# Altium footprint library 贴片IC.PcbLib: 51 footprints (part 1 of 4)
Each footprint in its own frame and in the unit in brackets; x right, y up, seen from the top. Pads: shape width x height; smd on the part's side, far side on the other; paste and mask are expansions set on the pad; w line width, h text height; cw(c..) or ccw(c..) is an arc to the next point about the centre after c.
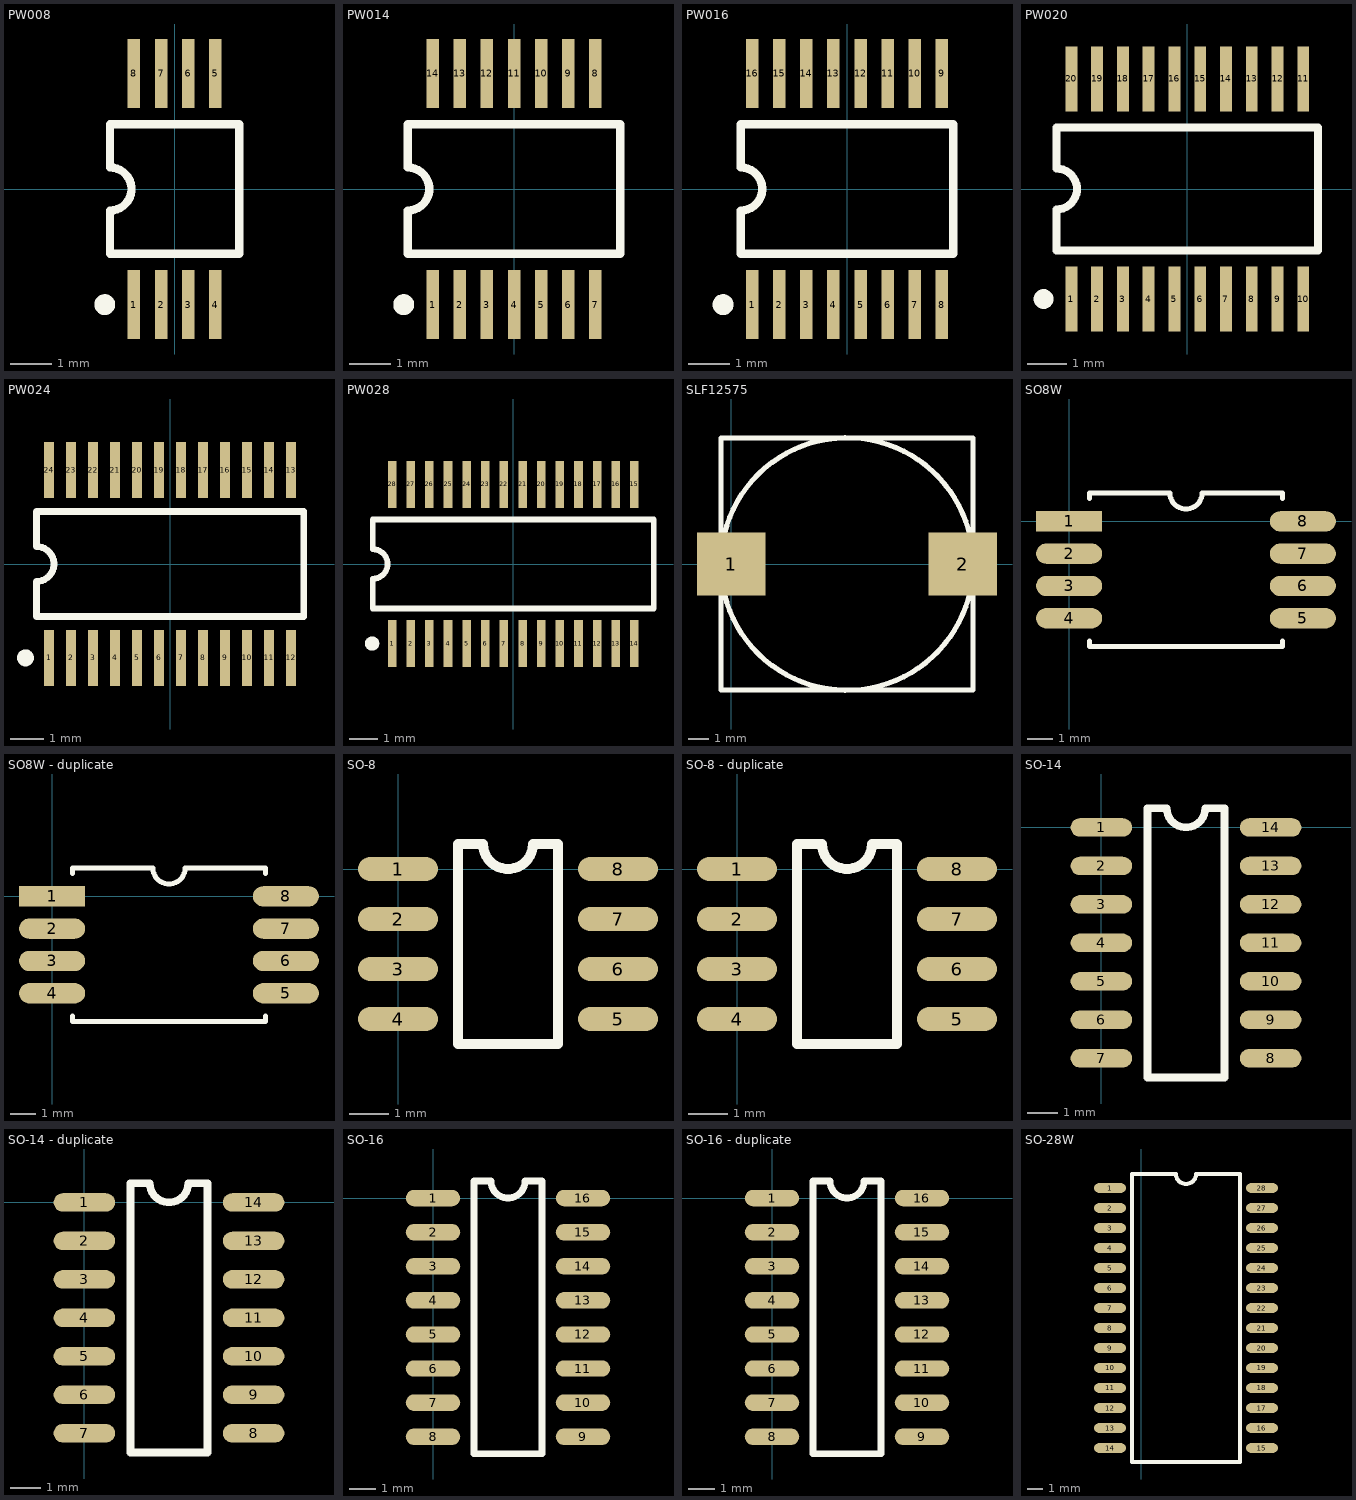
[diagram p0: the footprints below, top view; thin cyan lines are the x and y axes]

## PW008 [mm] "Shrink Small Outline; 8 Leads; Body Width 4.4 mm; Pitch 0.65 mm"
height 1.2
pads (8):
  rect 0.3x1.65 smd: 1(-0.975,-2.775) 2(-0.325,-2.775) 3(0.325,-2.775) 4(0.975,-2.775) 5(0.975,2.775) 6(0.325,2.775) 7(-0.325,2.775) 8(-0.975,2.775)
Top Overlay:
  circle w0.25: c-1.675,-2.775 r0.125
  lines w0.2: -1.55,-1.55 -1.55,-0.517 ccw(c-1.55,0) -1.55,0.517 -1.55,1.55 1.55,1.55 1.55,-1.55 -1.55,-1.55

## PW014 [mm] "Shrink Small Outline; 14 Leads; Body Width 4.4 mm; Pitch 0.65 mm"
height 1.2
pads (14):
  rect 0.3x1.65 smd: 1(-1.95,-2.775) 2(-1.3,-2.775) 3(-0.65,-2.775) 4(0,-2.775) 5(0.65,-2.775) 6(1.3,-2.775) 7(1.95,-2.775) 8(1.95,2.775) 9(1.3,2.775) 10(0.65,2.775) 11(0,2.775) 12(-0.65,2.775) 13(-1.3,2.775) 14(-1.95,2.775)
Top Overlay:
  circle w0.25: c-2.65,-2.775 r0.125
  lines w0.2: -2.55,-1.55 2.55,-1.55 2.55,1.55 -2.55,1.55 -2.55,0.517 cw(c-2.55,0) -2.55,-0.517 -2.55,-1.55

## PW016 [mm] "Shrink Small Outline; 16 Leads; Body Width 4.4 mm; Pitch 0.65 mm"
height 1.2
pads (16):
  rect 0.3x1.65 smd: 1(-2.275,-2.775) 2(-1.625,-2.775) 3(-0.975,-2.775) 4(-0.325,-2.775) 5(0.325,-2.775) 6(0.975,-2.775) 7(1.625,-2.775) 8(2.275,-2.775) 9(2.275,2.775) 10(1.625,2.775) 11(0.975,2.775) 12(0.325,2.775) 13(-0.325,2.775) 14(-0.975,2.775) 15(-1.625,2.775) 16(-2.275,2.775)
Top Overlay:
  circle w0.25: c-2.975,-2.775 r0.125
  lines w0.2: -2.55,-1.55 2.55,-1.55 2.55,1.55 -2.55,1.55 -2.55,0.517 cw(c-2.55,0) -2.55,-0.517 -2.55,-1.55

## PW020 [mm] "Shrink Small Outline; 20 Leads; Body Width 4.4 mm; Pitch 0.65 mm"
height 1.2
pads (20):
  rect 0.3x1.65 smd: 1(-2.925,-2.775) 2(-2.275,-2.775) 3(-1.625,-2.775) 4(-0.975,-2.775) 5(-0.325,-2.775) 6(0.325,-2.775) 7(0.975,-2.775) 8(1.625,-2.775) 9(2.275,-2.775) 10(2.925,-2.775) 11(2.925,2.775) 12(2.275,2.775) 13(1.625,2.775) 14(0.975,2.775) 15(0.325,2.775) 16(-0.325,2.775) 17(-0.975,2.775) 18(-1.625,2.775) 19(-2.275,2.775) 20(-2.925,2.775)
Top Overlay:
  circle w0.25: c-3.625,-2.775 r0.125
  lines w0.2: -3.3,-1.55 -3.3,-0.517 ccw(c-3.3,0) -3.3,0.517 -3.3,1.55 3.3,1.55 3.3,-1.55 -3.3,-1.55

## PW024 [mm] "Shrink Small Outline; 24 Leads; Body Width 4.4 mm; Pitch 0.65 mm"
height 1.2
pads (24):
  rect 0.3x1.65 smd: 1(-3.575,-2.775) 2(-2.925,-2.775) 3(-2.275,-2.775) 4(-1.625,-2.775) 5(-0.975,-2.775) 6(-0.325,-2.775) 7(0.325,-2.775) 8(0.975,-2.775) 9(1.625,-2.775) 10(2.275,-2.775) 11(2.925,-2.775) 12(3.575,-2.775) 13(3.575,2.775) 14(2.925,2.775) 15(2.275,2.775) 16(1.625,2.775) 17(0.975,2.775) 18(0.325,2.775) 19(-0.325,2.775) 20(-0.975,2.775) 21(-1.625,2.775) 22(-2.275,2.775) 23(-2.925,2.775) 24(-3.575,2.775)
Top Overlay:
  circle w0.25: c-4.275,-2.775 r0.125
  lines w0.2: -3.95,-1.55 -3.95,-0.517 ccw(c-3.95,0) -3.95,0.517 -3.95,1.55 3.95,1.55 3.95,-1.55 -3.95,-1.55

## PW028 [mm] "Shrink Small Outline; 28 Leads; Body Width 4.4 mm; Pitch 0.65 mm"
height 1.2
pads (28):
  rect 0.3x1.65 smd: 1(-4.225,-2.775) 2(-3.575,-2.775) 3(-2.925,-2.775) 4(-2.275,-2.775) 5(-1.625,-2.775) 6(-0.975,-2.775) 7(-0.325,-2.775) 8(0.325,-2.775) 9(0.975,-2.775) 10(1.625,-2.775) 11(2.275,-2.775) 12(2.925,-2.775) 13(3.575,-2.775) 14(4.225,-2.775) 15(4.225,2.775) 16(3.575,2.775) 17(2.925,2.775) 18(2.275,2.775) 19(1.625,2.775) 20(0.975,2.775) 21(0.325,2.775) 22(-0.325,2.775) 23(-0.975,2.775) 24(-1.625,2.775) 25(-2.275,2.775) 26(-2.925,2.775) 27(-3.575,2.775) 28(-4.225,2.775)
Top Overlay:
  circle w0.25: c-4.925,-2.775 r0.125
  lines w0.2: -4.9,-1.55 4.9,-1.55 4.9,1.55 -4.9,1.55 -4.9,0.517 cw(c-4.9,0) -4.9,-0.517 -4.9,-1.55

## SLF12575 [mm]
pads (2):
  rect 3.4x3.15 smd: 1(0,0) 2(11.5,0)
Top Overlay:
  circle w0.254: c5.75,0 r6.27
  lines w0.254: -0.5,-6.25 12,-6.25 12,6.25 -0.5,6.25 -0.5,-6.25

## SO8W [mm]
pads (8):
  rect 2.6x0.8 smd: 1(0,0)
  oval 2.6x0.8 smd: 2(0,-1.27) 3(0,-2.54) 4(0,-3.81) 5(9.2,-3.81) 6(9.2,-2.54) 7(9.2,-1.27) 8(9.2,0)
Top Overlay:
  lines w0.2: 0.8,-4.71 0.8,-4.93 8.4,-4.93 8.4,-4.71 ; 0.8,0.9 0.8,1.12 3.965,1.12 ccw(c4.6,1.12) 5.235,1.12 8.4,1.12 8.4,0.9

## SO8W - duplicate [mm]
pads (8):
  rect 2.6x0.8 smd: 1(0,0)
  oval 2.6x0.8 smd: 2(0,-1.27) 3(0,-2.54) 4(0,-3.81) 5(9.2,-3.81) 6(9.2,-2.54) 7(9.2,-1.27) 8(9.2,0)
Top Overlay:
  lines w0.2: 0.8,-4.71 0.8,-4.93 8.4,-4.93 8.4,-4.71 ; 0.8,0.9 0.8,1.12 3.965,1.12 ccw(c4.6,1.12) 5.235,1.12 8.4,1.12 8.4,0.9

## SO-8 [mil]
pads (8):
  oval 80x24 smd: 1(0,0) 2(0,-50) 3(0,-100) 4(0,-150) 5(220,-150) 6(220,-100) 7(220,-50) 8(220,0)
Top Overlay:
  lines w10: 60,-175 160,-175 160,25 135,25 cw(c110,25) 85,25 60,25 60,-175

## SO-8 - duplicate [mil]
pads (8):
  oval 80x24 smd: 1(0,0) 2(0,-50) 3(0,-100) 4(0,-150) 5(220,-150) 6(220,-100) 7(220,-50) 8(220,0)
Top Overlay:
  lines w10: 60,-175 60,25 85,25 ccw(c110,25) 135,25 160,25 160,-175 60,-175

## SO-14 [mil]
pads (14):
  oval 80x24 smd: 1(0,0) 2(0,-50) 3(0,-100) 4(0,-150) 5(0,-200) 6(0,-250) 7(0,-300) 8(220,-300) 9(220,-250) 10(220,-200) 11(220,-150) 12(220,-100) 13(220,-50) 14(220,0)
Top Overlay:
  lines w10: 60,-325 160,-325 160,25 135,25 cw(c110,25) 85,25 60,25 60,-325

## SO-14 - duplicate [mil]
pads (14):
  oval 80x24 smd: 1(0,0) 2(0,-50) 3(0,-100) 4(0,-150) 5(0,-200) 6(0,-250) 7(0,-300) 8(220,-300) 9(220,-250) 10(220,-200) 11(220,-150) 12(220,-100) 13(220,-50) 14(220,0)
Top Overlay:
  lines w10: 60,-325 60,25 85,25 ccw(c110,25) 135,25 160,25 160,-325 60,-325

## SO-16 [mil]
pads (16):
  oval 80x24 smd: 1(0,0) 2(0,-50) 3(0,-100) 4(0,-150) 5(0,-200) 6(0,-250) 7(0,-300) 8(0,-350) 9(220,-350) 10(220,-300) 11(220,-250) 12(220,-200) 13(220,-150) 14(220,-100) 15(220,-50) 16(220,0)
Top Overlay:
  lines w10: 60,-375 160,-375 160,25 135,25 cw(c110,25) 85,25 60,25 60,-375

## SO-16 - duplicate [mil]
pads (16):
  oval 80x24 smd: 1(0,0) 2(0,-50) 3(0,-100) 4(0,-150) 5(0,-200) 6(0,-250) 7(0,-300) 8(0,-350) 9(220,-350) 10(220,-300) 11(220,-250) 12(220,-200) 13(220,-150) 14(220,-100) 15(220,-50) 16(220,0)
Top Overlay:
  lines w10: 60,-375 60,25 85,25 ccw(c110,25) 135,25 160,25 160,-375 60,-375

## SO-28W [mil]
pads (28):
  oval 80x24 smd: 1(-78.74,-118.11) 2(-78.74,-168.11) 3(-78.74,-218.11) 4(-78.74,-268.11) 5(-78.74,-318.11) 6(-78.74,-368.11) 7(-78.74,-418.11) 8(-78.74,-468.11) 9(-78.74,-518.11) 10(-78.74,-568.11) 11(-78.74,-618.11) 12(-78.74,-668.11) 13(-78.74,-718.11) 14(-78.74,-768.11) 15(301.26,-768.11) 16(301.26,-718.11) 17(301.26,-668.11) 18(301.26,-618.11) 19(301.26,-568.11) 20(301.26,-518.11) 21(301.26,-468.11) 22(301.26,-418.11) 23(301.26,-368.11) 24(301.26,-318.11) 25(301.26,-268.11) 26(301.26,-218.11) 27(301.26,-168.11) 28(301.26,-118.11)
Top Overlay:
  lines w10: -23.74,-803.11 -23.74,-83.11 86.26,-83.11 ccw(c111.26,-83.11) 136.26,-83.11 246.26,-83.11 246.26,-803.11 -23.74,-803.11